# EAGLE library part DUAL_OP_AMP (library MeRCIS Lab Parts)
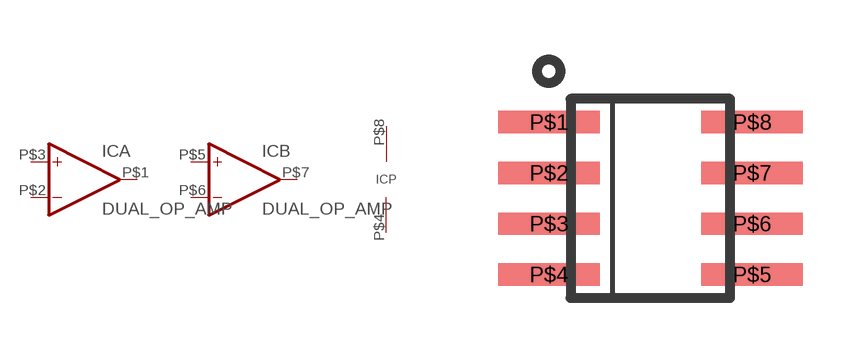
[diagram p2: symbol with the pads of SO-8; footprint SO-8]

Designator prefix IC; gates A=OP_AMP B=OP_AMP P=PWR+-

## DUAL_OP_AMP  [SO-8]
P$1  A:OUT  out
P$2  A:-IN  in
P$3  A:+IN  in
P$4  P:V-  pwr
P$5  B:+IN  in
P$6  B:-IN  in
P$7  B:OUT  out
P$8  P:V+  pwr

## Footprint SO-8 (pad centres in mm)
smd 2.54 x 0.559: P$1 -2.54,1.905; P$2 -2.54,0.635; P$3 -2.54,-0.635; P$4 -2.54,-1.905; P$5 2.54,-1.905; P$6 2.54,-0.635; P$7 2.54,0.635; P$8 2.54,1.905